# Altium schematic symbol library Common_lib.SchLib: 154 symbols (part 2 of 2)
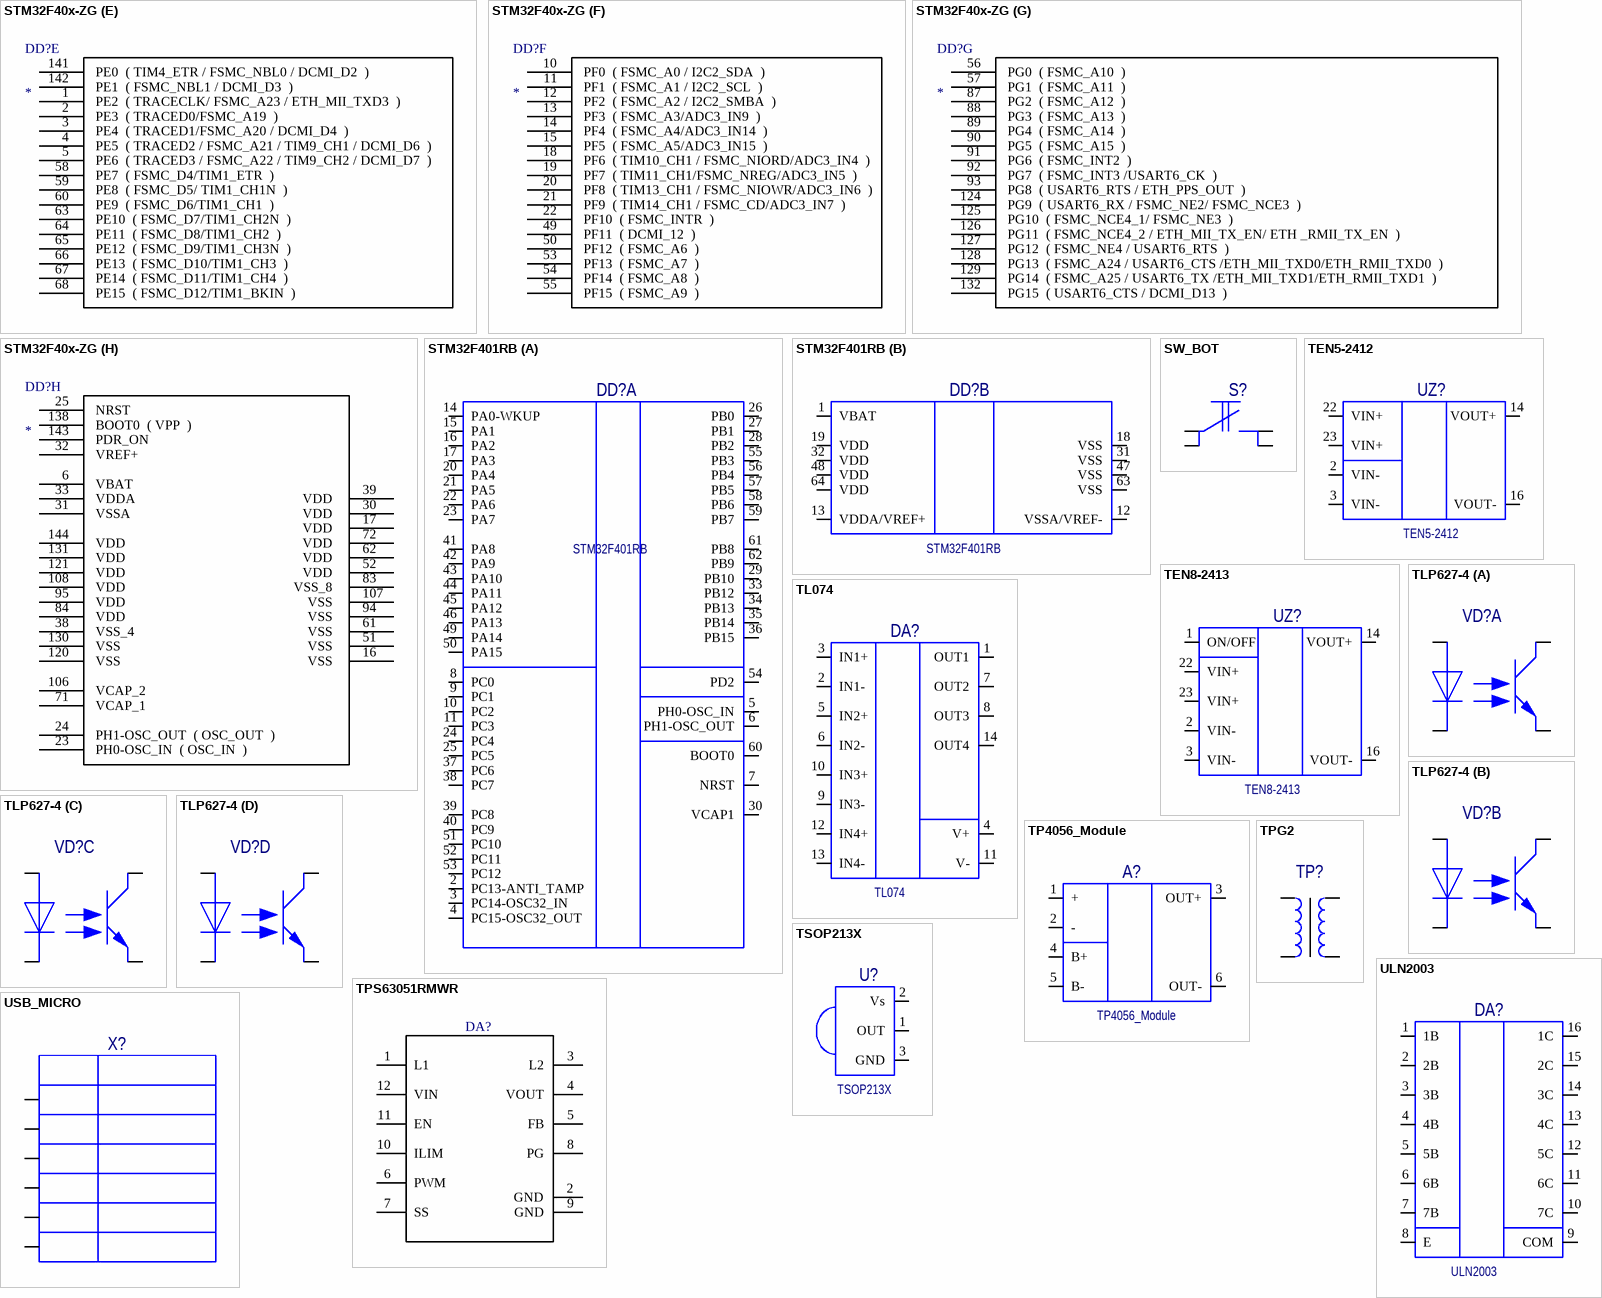
[diagram p8: symbols STM32F40x-ZG to USB_MICRO]

## ULN2003
designator DA?
Manufacturer: ф. TI; ManufacturerPartNumber: ULN2003ADR; BCDId: *; TU/GOST: *; Type: Микросхема; ValueBOM: *
footprint SO-16_M (SOIC, 16-Leads, Body 9.9x3.9mm, Pitch 1.27mm, IPC Low Density)
pins: 1 1B, 2 2B, 3 3B, 4 4B, 5 5B, 6 6B, 7 7B, 8 E, 9 COM, 10 7C, 11 6C, 12 5C, 13 4C, 14 3C, 15 2C, 16 1C

## USB_MICRO
designator X?  (value not drawn)
Manufacturer: ф. Molex; ManufacturerPartNumber: 47346-0001; BCDId: *; TU/GOST: *; Type: Разъём; ValueBOM: *
footprint 47346-0001_MOL
pins: 1, 2, 3, 4, 5, 6

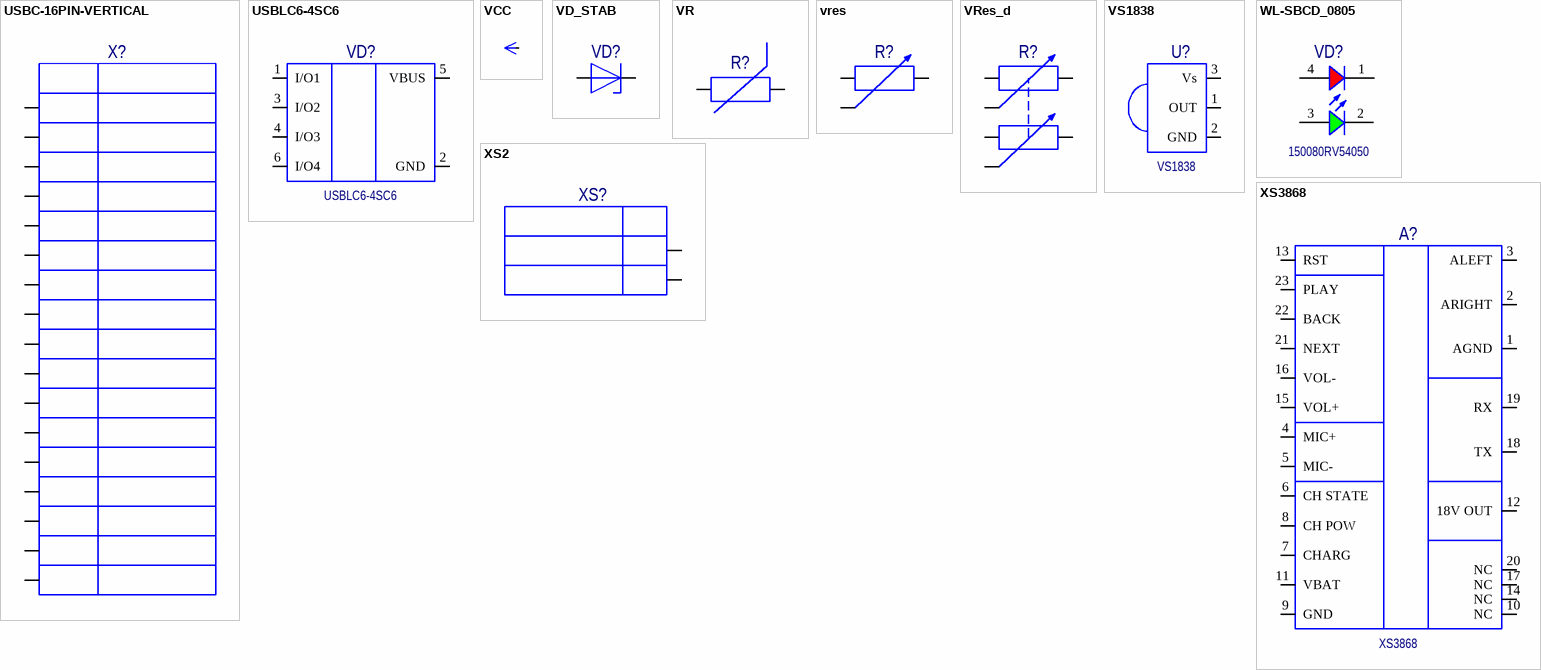
[diagram p7: symbols USBC-16PIN-VERTICAL to XS3868]

## USBC-16PIN-VERTICAL
designator X?  (value not drawn)
Manufacturer: ф. Ningbo Zhenqin Electronic; ManufacturerPartNumber: PLS11; BCDId: *; TU/GOST: *; Type: Разъём; ValueBOM: *
footprint USB-C-16-pin-vertical
pins: 1, A1, A4, A5, A6, A7, A8, A9, A12, B1, B4, B5, B6, B7, B8, B9, B12

## USBLC6-4SC6
designator VD?
Manufacturer: ф. St; Type: Диод; BCDId: *; ManufacturerPartNumber: USBLC6-4SC6; TU/GOST: *; ValueBOM: *
footprint SOT23-6_M (SOT23, 6-Leads, Body 2.9x1.6mm, Pitch 0.95mm, Lead Span 2.7mm, IPC Low Density)
pins: 1 I/O1, 2 GND, 3 I/O2, 4 I/O3, 5 VBUS, 6 I/O4

## VCC
designator ?  (value not drawn)  (graphical)
pins: 0

## VD_STAB
designator VD?  (value not drawn)
Manufacturer: ф. Taiwan Semiconductor; ManufacturerPartNumber: BZV55C4V3; Type: Стабилитрон; Pack: SOD-80; BCDId: *; TU/GOST: *; ValueBOM: *
pins: 1, 2

## VR
designator R?
Manufacturer: ф. Samsung; Name: 0805; Tolerance: 5%; Value: 10кОм; BCDId: *; ManufacturerPartNumber: *; Power/Voltage: *; Rem: *; TKE/TCK: *; TU/GOST: *; Type: Варистор; ValueBOM: *
footprint JVR-05 (Varistor)
pins: 1, 2

## vres
designator R?
Name: 0805; Tolerance: 5%; Value: 10кОм; BCDId: *; ManufacturerPartNumber: *; Power/Voltage: *; Rem: *; TKE/TCK: *; TU/GOST: *; Type: Переменный резистор; ValueBOM: *
footprint JBR-3266W
pins: 1, 2, 3

## VRes_d
designator R?
Name: 0805; Tolerance: 5%; Value: 10кОм; BCDId: *; ManufacturerPartNumber: *; Power/Voltage: *; Rem: *; TKE/TCK: *; TU/GOST: *; Type: Переменный резистор; ValueBOM: *
footprint Vres_double (Axial Device, Thru-Hole; 2 Leads; 0.3 in Pin Spacing)
pins: 1, 2, 3, 4, 5, 6

## VS1838
designator U?
Manufacturer: ф. Vishay; BCDId: *; ManufacturerPartNumber: VS1838; TU/GOST: *; Type: Фотоприемник; ValueBOM: *
footprint TSOP213X
pins: 1 OUT, 2 GND, 3 Vs

## WL-SBCD_0805
designator VD?, comment 150080RV54050
Manufacturer: ф. WE; Type: Светодиод; BCDId: *; ManufacturerPartNumber: 150080RV54050; TU/GOST: *; ValueBOM: *
footprint WL-SBCD_0805 (SMT Bi-color Chip LED Diffuesed, body 2x1.3mm)
pins: 1 K, 2 K, 3 A, 4 A

## XS2
designator XS?  (value not drawn)
Manufacturer: ф. TE Connectivity; ManufacturerPartNumber: Вилка 1x6 AMPMODU 280372-2; BCDId: *; TU/GOST: *; Type: Разъём; ValueBOM: *
pins: 1, 2

## XS3868
designator A?
BCDId: *; ManufacturerPartNumber: XS3868; TU/GOST: *; Type: Микросхема; ValueBOM: *
footprint xs3868 (Bluetoth module)
pins: 1 AGND, 2 ARIGHT, 3 ALEFT, 4 MIC+, 5 MIC-, 6 CH STATE, 7 CHARG, 8 CH POW, 9 GND, 10 NC, 11 VBAT, 12 18V OUT, 13 RST, 14 NC, 15 VOL+, 16 VOL-, 17 NC, 18 TX, 19 RX, 20 NC, 21 NEXT, 22 BACK, 23 PLAY